# Altium footprint library RayPCB20210502.PcbLib: 211 footprints (part 7 of 14)
Each footprint in its own frame and in the unit in brackets; x right, y up, seen from the top. Pads: shape width x height; smd on the part's side, far side on the other; paste and mask are expansions set on the pad; w line width, h text height; cw(c..) or ccw(c..) is an arc to the next point about the centre after c.
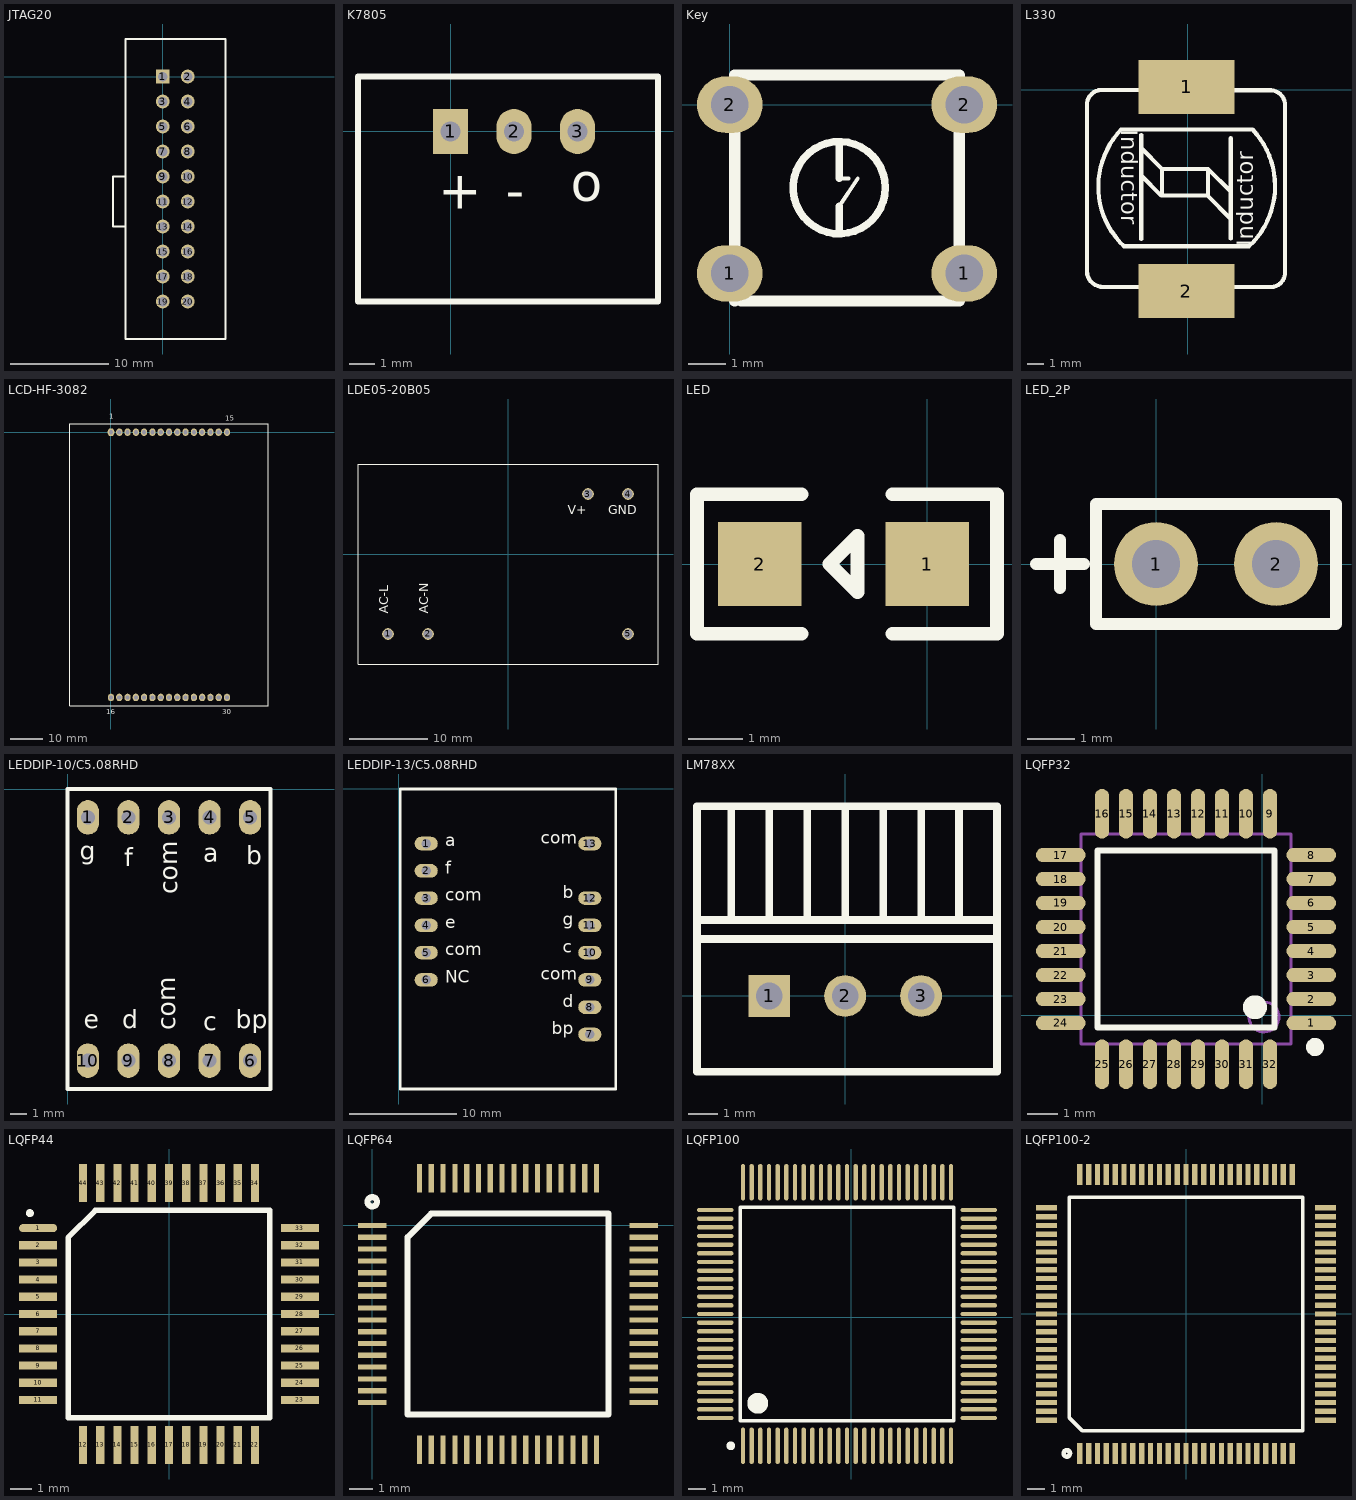
[diagram p6: the footprints below, top view; thin cyan lines are the x and y axes]

## JTAG20 [mil] "JTAG-20PIN"
pads (20):
  rect 55x55 hole 38: 1(0,0)
  round 55 hole 38: 2(100,0) 3(0,-100) 4(100,-100) 5(0,-200) 6(100,-200) 7(0,-300) 8(100,-300) 9(0,-400) 10(100,-400) 11(0,-500) 12(100,-500) 13(0,-600) 14(100,-600) 15(0,-700) 16(100,-700) 17(0,-800) 18(100,-800) 19(0,-900) 20(100,-900)
Top Overlay:
  lines w8: -150,-600 -200,-600 -200,-400 -150,-400 ; -150,-1050 250,-1050 250,150 -150,150 -150,-1050

## K7805 [mm]
pads (3):
  rect 1.4x1.8 hole 0.8: 1(0,0)
  oval 1.4x1.8 hole 0.8: 2(2.54,0) 3(5.08,0)
Top Overlay:
  lines w0.254: -3.7,-6.8 8.3,-6.8 8.3,2.2 -3.7,2.2 -3.7,-6.8
  text "+" at -0.5,-3.1 h1.52
  text "-" at 2.2,-3.1 h1.52
  text "o" at 4.8,-2.8 h1.52

## Key [mil]
pads (4):
  oval 70x60 hole 40: 1(0,-180) 1(250,-180) 2(0,0) 2(250,0)
Top Overlay:
  circle w8: c116.73,-88.61 r49.21
  lines w4: 116.73,-108.29 136.42,-78.76 ; 116.73,-78.76 126.58,-78.76
  lines w8: 116.73,-137.82 116.73,-108.29 ; 116.73,-78.77 116.73,-39.39
  lines w12: 5.32,-209.47 5.32,31.47 244.69,31.47 244.69,-209.47 12.21,-209.47

## L330 [mm] "Inductor 33uH"
pads (2):
  rect 5.857x3.308 smd: 1(-0.064,0.16) 2(-0.073,-12.31)
Top Overlay:
  lines w0.254: -3.953,-9.51 -3.893,-9.57 ; -2.903,-0.02 -5.274,-0.02 ccw(c-5.229,-0.945) -6.154,-0.99 -6.154,-11.1 ccw(c-5.169,-11.075) -5.144,-12.06 -2.893,-12.06 -2.883,-12.05 ; -2.833,-9.13 -2.833,-2.77 ; -2.833,-5.26 -1.613,-6.48 1.206,-6.48 2.636,-7.91 2.636,-8.03 ; -2.833,-3.58 -1.563,-4.85 ; -1.563,-6.43 -1.563,-4.85 ; 1.246,-6.44 1.246,-4.85 ; 2.636,-9.09 2.636,-2.97 ; 2.636,-6.24 1.246,-4.85 ; 2.806,-12.07 5.126,-12.07 ccw(c5.066,-11.19) 5.946,-11.13 ; 2.827,-0.04 5.086,-0.04 cw(c5.036,-0.96) 5.956,-1.01 5.957,-11.12 ; -3.893,-9.57 cw(c-0.418,-5.925) -4.064,-2.45 3.976,-2.45 cw(c0.306,-5.9) 3.757,-9.57 -3.893,-9.57 ; -1.563,-4.85 1.246,-4.85
  text "Inductor" at -4.063,-2.45 h1
  text "Inductor" at 4.006,-9.57 h1

## LCD-HF-3082 [mil] "LCD Seg DISPLAY"
pads (30):
  oval 80x95 hole 50: 1(0,0)
  oval 75x90 hole 50: 2(100,0) 3(200,0) 4(300,0) 5(400,0) 6(500,0) 7(600,0) 8(700,0) 9(800,0) 10(900,0) 11(1000,0) 12(1100,0) 13(1200,0) 14(1300,0) 15(1400,0) 16(0,-3200) 17(100,-3200) 18(200,-3200) 19(300,-3200) 20(400,-3200) 21(500,-3200) 22(600,-3200) 23(700,-3200) 24(800,-3200) 25(900,-3200) 26(1000,-3200) 27(1100,-3200) 28(1200,-3200) 29(1300,-3200) 30(1400,-3200)
Top Overlay:
  lines w10: -500,-3300 -500,100 1900,100 1900,-3300 -500,-3300
  text "30" at 1340,-3400 h60
  text "16" at -60,-3400 h60
  text "15" at 1380,140 h60
  text "1" at -20,160 h60

## LDE05-20B05 [mm]
pads (5):
  round 1.5 hole 1.2: 1(-15.24,-10.16) 2(-10.16,-10.16) 3(10.16,7.62) 4(15.24,7.62) 5(15.24,-10.16)
Top Overlay:
  lines w0.127: -19.05,-13.97 19.05,-13.97 19.05,11.43 -19.05,11.43 -19.05,-13.97
  text "AC-N" at -10.16,-7.62 h1.14
  text "AC-L" at -15.24,-7.62 h1.14
  text "V+" at 7.62,5.08 h1.14
  text "GND" at 12.7,5.08 h1.14

## LED [mil]
pads (2):
  rect 60x60 smd: 1(0,0) 2(-120,0)
Top Overlay:
  lines w10: -90,-50 -165,-50 -165,50 -90,50 ; -25,-50 50,-50 50,50 -25,50 ; -70,0 -50,-20 -50,20 -70,0

## LED_2P [mil] "100mil"
pads (2):
  round 70 hole 40: 1(0,0) 2(100,0)
Top Overlay:
  lines w10: -100,0 -60,0 ; -80,-20 -80,20 ; -50,-50 -50,50 150,50 150,-50 -50,-50

## LEDDIP-10/C5.08RHD [mil] "SmallOne"
pads (10):
  oval 55x85 hole 35: 1(50,-70) 2(150,-70) 3(250,-70) 4(350,-70) 5(450,-70) 6(450,-670) 7(350,-670) 8(250,-670) 9(150,-670) 10(50,-670)
Top Overlay:
  lines w10: 0,-740 0,0 500,0 500,-740 0,-740
  text "g" at 30,-175 h45
  text "f" at 140,-190 h45
  text "com" at 270,-260 h45
  text "a" at 335,-180 h45
  text "b" at 440,-185 h45
  text "bp" at 415,-590 h45
  text "c" at 335,-595 h45
  text "com" at 265,-595 h45
  text "d" at 135,-590 h45
  text "e" at 40,-590 h45

## LEDDIP-13/C5.08RHD [mil] "LargerONE"
pads (13):
  oval 85x50 hole 35: 1(100,-200) 2(100,-300) 3(100,-400) 4(100,-500) 5(100,-600) 6(100,-700) 7(700,-900) 8(700,-800) 9(700,-700) 10(700,-600) 11(700,-500) 12(700,-400) 13(700,-200)
Top Overlay:
  lines w10: 5,-1100 795,-1100 795,0 5,0 5,-1100
  text "a" at 170,-210 h45
  text "f" at 170,-310 h45
  text "com" at 170,-410 h45
  text "e" at 170,-510 h45
  text "com" at 170,-610 h45
  text "NC" at 170,-710 h45
  text "bp" at 560,-900 h45
  text "d" at 600,-800 h45
  text "com" at 520,-700 h45
  text "c" at 600,-600 h45
  text "g" at 600,-500 h45
  text "b" at 600,-400 h45
  text "com" at 520,-200 h45

## LM78XX [mil]
pads (3):
  rect 55x55 hole 35: 1(-100,0)
  round 55 hole 35: 2(0,0) 3(100,0)
Top Overlay:
  lines w10: -195,75 200,75 ; -150,100 -150,250 ; -100,100 -100,250 ; -50,100 -50,250 ; 0,100 0,250 ; 50,100 50,250 ; 100,100 100,250 ; 150,100 150,250 ; -195,100 -195,-100 200,-100 200,100 ; -195,100 200,100 ; -195,100 -195,250 200,250 200,100

## LQFP32 [mm]
pads (32):
  oval 1.65x0.48 smd: 1(1.635,-0.26) 2(1.635,0.54) 3(1.635,1.34) 4(1.635,2.14) 5(1.635,2.94) 6(1.635,3.74) 7(1.635,4.54) 8(1.635,5.34) 17(-6.715,5.34) 18(-6.715,4.54) 19(-6.715,3.74) 20(-6.715,2.94) 21(-6.715,2.14) 22(-6.715,1.34) 23(-6.715,0.54) 24(-6.715,-0.26)
  oval 0.48x1.65 smd: 9(0.26,6.715) 10(-0.54,6.715) 11(-1.34,6.715) 12(-2.14,6.715) 13(-2.94,6.715) 14(-3.74,6.715) 15(-4.54,6.715) 16(-5.34,6.715) 25(-5.34,-1.635) 26(-4.54,-1.635) 27(-3.74,-1.635) 28(-2.94,-1.635) 29(-2.14,-1.635) 30(-1.34,-1.635) 31(-0.54,-1.635) 32(0.26,-1.635)
Top Overlay:
  circle w0.3: c1.76,-1.06 r0.15
  circle w0.4: c-0.24,0.265 r0.2
  lines w0.2: -5.49,-0.41 -5.49,5.49 0.41,5.49 0.41,-0.41 -5.49,-0.41
Mechanical 13:
  circle w0.1: c0.06,-0.06 r0.5
  lines w0.1: -6.04,-0.96 -6.04,6.04 0.96,6.04 0.96,-0.96 -6.04,-0.96

## LQFP44 [mil] "STM32S105S4"
pads (45):
  oval 70x15 smd: 1(-240,157.48)
  rect 70x15 smd: 2(-240,125.98) 3(-240,94.49) 4(-240,62.99) 5(-240,31.5) 6(-240,0) 7(-240,-31.5) 8(-240,-62.99) 9(-240,-94.49) 10(-240,-125.98) 11(-240,-157.48) 23(240,-157.48) 24(240,-125.98) 25(240,-94.49) 26(240,-62.99) 27(240,-31.5) 28(240,0) 29(240,31.5) 30(240,62.99) 31(240,94.49) 32(240,125.98) 33(240,157.48)
  rect 15x70 smd: 12(-157.48,-240) 13(-125.98,-240) 14(-94.49,-240) 15(-62.99,-240) 16(-31.5,-240) 17(0,-240) 18(31.5,-240) 19(62.99,-240) 20(94.49,-240) 21(125.98,-240) 22(157.48,-240) 34(157.48,240) 37(62.99,240) 38(31.5,240) 39(0,240) 40(-31.5,240) 41(-62.99,240) 42(-94.49,240) 43(-125.98,240) 44(-157.48,240)
  rect 15.75x70 smd: 35(125.98,240) 36(94.49,240)
  round 15 on Top Overlay: 45(-255,185)
Top Overlay:
  lines w10: -185,-190 185,-190 185,190 -135,190 -185,140 -185,-190

## LQFP64 [mm]
pads (64):
  rect 1.2x0.22 smd: 1(0,0) 2(0,-0.5) 3(0,-1) 4(0,-1.5) 5(0,-2) 6(0,-2.5) 7(0,-3) 8(0,-3.5) 9(0,-4) 10(0,-4.5) 11(0,-5) 12(0,-5.5) 13(0,-6) 14(0,-6.5) 15(0,-7) 16(0,-7.5) 33(11.5,-7.5) 34(11.5,-7) 35(11.5,-6.5) 36(11.5,-6) 37(11.5,-5.5) 38(11.5,-5) 39(11.5,-4.5) 40(11.5,-4) 41(11.5,-3.5) 42(11.5,-3) 43(11.5,-2.5) 44(11.5,-2) 45(11.5,-1.5) 46(11.5,-1) 47(11.5,-0.5) 48(11.5,0)
  rect 0.22x1.2 smd: 17(2,-9.5) 18(2.5,-9.5) 19(3,-9.5) 20(3.5,-9.5) 21(4,-9.5) 22(4.5,-9.5) 23(5,-9.5) 24(5.5,-9.5) 25(6,-9.5) 26(6.5,-9.5) 27(7,-9.5) 28(7.5,-9.5) 29(8,-9.5) 30(8.5,-9.5) 31(9,-9.5) 32(9.5,-9.5) 49(9.5,2) 50(9,2) 51(8.5,2) 52(8,2) 53(7.5,2) 54(7,2) 55(6.5,2) 56(6,2) 57(5.5,2) 58(5,2) 59(4.5,2) 60(4,2) 61(3.5,2) 62(3,2) 63(2.5,2) 64(2,2)
Top Overlay:
  circle w0.254: c0,1 r0.2
  lines w0.254: 2.5,0.5 1.5,-0.5 1.5,-8 10,-8 10,0.5 2.5,0.5 ; 2.5,0.5 2.5,0.5

## LQFP100 [mm] "STM32F013VBT6"
pads (100):
  oval 0.254x2.1 smd: 1(-6.25,-7.42) 2(-5.75,-7.42) 3(-5.25,-7.42) 4(-4.75,-7.42) 5(-4.25,-7.42) 6(-3.75,-7.42) 7(-3.25,-7.42) 8(-2.75,-7.42) 9(-2.25,-7.42) 10(-1.75,-7.42) 11(-1.25,-7.42) 12(-0.75,-7.42) 13(-0.25,-7.42) 14(0.25,-7.42) 15(0.75,-7.42) 16(1.25,-7.42) 17(1.75,-7.42) 18(2.25,-7.42) 19(2.75,-7.42) 20(3.25,-7.42) 21(3.75,-7.42) 22(4.25,-7.42) 23(4.75,-7.42) 24(5.25,-7.42) 25(5.75,-7.42) 51(5.75,7.78) 52(5.25,7.78) 53(4.75,7.78) 54(4.25,7.78) 55(3.75,7.78) 56(3.25,7.78) 57(2.75,7.78) 58(2.25,7.78) 59(1.75,7.78) 60(1.25,7.78) 61(0.75,7.78) 62(0.25,7.78) 63(-0.25,7.78) 64(-0.75,7.78) 65(-1.25,7.78) 66(-1.75,7.78) 67(-2.25,7.78) 68(-2.75,7.78) 69(-3.25,7.78) 70(-3.75,7.78) 71(-4.25,7.78) 72(-4.75,7.78) 73(-5.25,7.78) 74(-5.75,7.78) 75(-6.25,7.78)
  oval 2.1x0.254 smd: 26(7.35,-5.82) 27(7.35,-5.32) 28(7.35,-4.82) 29(7.35,-4.32) 30(7.35,-3.82) 31(7.35,-3.32) 32(7.35,-2.82) 33(7.35,-2.32) 34(7.35,-1.82) 35(7.35,-1.32) 36(7.35,-0.82) 37(7.35,-0.32) 38(7.35,0.18) 39(7.35,0.68) 40(7.35,1.18) 41(7.35,1.68) 42(7.35,2.18) 43(7.35,2.68) 44(7.35,3.18) 45(7.35,3.68) 46(7.35,4.18) 47(7.35,4.68) 48(7.35,5.18) 49(7.35,5.68) 50(7.35,6.18) 76(-7.85,6.18) 77(-7.85,5.68) 78(-7.85,5.18) 79(-7.85,4.68) 80(-7.85,4.18) 81(-7.85,3.68) 82(-7.85,3.18) 83(-7.85,2.68) 84(-7.85,2.18) 85(-7.85,1.68) 86(-7.85,1.18) 87(-7.85,0.68) 88(-7.85,0.18) 89(-7.85,-0.32) 90(-7.85,-0.82) 91(-7.85,-1.32) 92(-7.85,-1.82) 93(-7.85,-2.32) 94(-7.85,-2.82) 95(-7.85,-3.32) 96(-7.85,-3.82) 97(-7.85,-4.32) 98(-7.85,-4.82) 99(-7.85,-5.32) 100(-7.85,-5.82)
Top Overlay:
  circle w0.25: c-6.95,-7.42 r0.125
  circle w0.6: c-5.4,-4.97 r0.3
  lines w0.2: -6.4,-5.97 5.9,-5.97 5.9,6.33 -6.4,6.33 -6.4,-5.97

## LQFP100-2 [mm] "STM32F103VB"
pads (100):
  rect 0.3x1.2 smd: 1(-6,-7.873) 2(-5.5,-7.873) 3(-5,-7.873) 4(-4.5,-7.873) 5(-4,-7.873) 6(-3.5,-7.873) 7(-3,-7.873) 8(-2.5,-7.873) 9(-2,-7.873) 10(-1.5,-7.873) 11(-1,-7.873) 12(-0.5,-7.873) 13(0,-7.873) 14(0.5,-7.873) 15(1,-7.873) 16(1.5,-7.873) 17(2,-7.873) 18(2.5,-7.873) 19(3,-7.873) 20(3.5,-7.873) 21(4,-7.873) 22(4.5,-7.873) 23(5,-7.873) 24(5.5,-7.873) 25(6,-7.873) 51(6,7.873) 52(5.5,7.873) 53(5,7.873) 54(4.5,7.873) 55(4,7.873) 56(3.5,7.873) 57(3,7.873) 58(2.5,7.873) 59(2,7.873) 60(1.5,7.873) 61(1,7.873) 62(0.5,7.873) 63(0,7.873) 64(-0.5,7.873) 65(-1,7.873) 66(-1.5,7.873) 67(-2,7.873) 68(-2.5,7.873) 69(-3,7.873) 70(-3.5,7.873) 71(-4,7.873) 72(-4.5,7.873) 73(-5,7.873) 74(-5.5,7.873) 75(-6,7.873)
  rect 1.2x0.3 smd: 26(7.873,-6) 27(7.873,-5.5) 28(7.873,-5) 29(7.873,-4.5) 30(7.873,-4) 31(7.873,-3.5) 32(7.873,-3) 33(7.873,-2.5) 34(7.873,-2) 35(7.873,-1.5) 36(7.873,-1) 37(7.873,-0.5) 38(7.873,0) 39(7.873,0.5) 40(7.873,1) 41(7.873,1.5) 42(7.873,2) 43(7.873,2.5) 44(7.873,3) 45(7.873,3.5) 46(7.873,4) 47(7.873,4.5) 48(7.873,5) 49(7.873,5.5) 50(7.873,6) 76(-7.873,6) 77(-7.873,5.5) 78(-7.873,5) 79(-7.873,4.5) 80(-7.873,4) 81(-7.873,3.5) 82(-7.873,3) 83(-7.873,2.5) 84(-7.873,2) 85(-7.873,1.5) 86(-7.873,1) 87(-7.873,0.5) 88(-7.873,0) 89(-7.873,-0.5) 90(-7.873,-1) 91(-7.873,-1.5) 92(-7.873,-2) 93(-7.873,-2.5) 94(-7.873,-3) 95(-7.873,-3.5) 96(-7.873,-4) 97(-7.873,-4.5) 98(-7.873,-5) 99(-7.873,-5.5) 100(-7.873,-6)
Top Overlay:
  circle w0.254: c-6.731,-7.874 r0.18
  lines w0.203: -6.604,-5.842 -6.604,6.604 6.604,6.604 6.604,-6.604 -5.842,-6.604 -6.604,-5.842